# EAGLE library part JS202011AQN (library NikodemBartnik)
Slide Switches DPDT THRU HOLE .3A R/A ON- ON 300mA 6VDC Angle
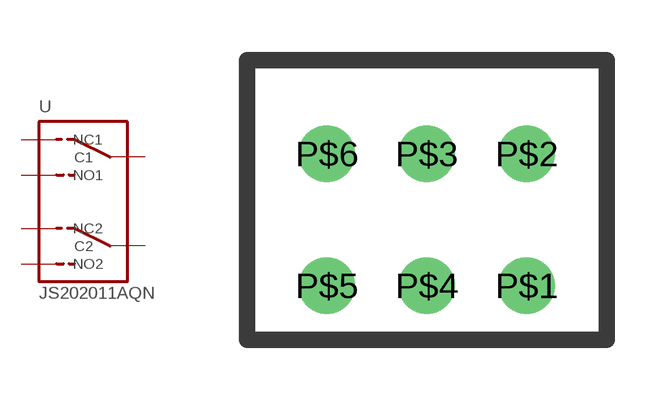
[diagram p1: symbol with the pads of JS202011AQN_DPDT; footprint JS202011AQN_DPDT]

Designator prefix -

## JS202011AQN  [JS202011AQN_DPDT]
P$1  NO2
P$2  NO1
P$3  C1
P$4  C2
P$5  NC2
P$6  NC1

## Footprint JS202011AQN_DPDT (pad centres in mm)
drill 0.9: P$1 2.5,-1.65; P$2 2.5,1.65; P$3 0,1.65; P$4 0,-1.65; P$5 -2.5,-1.65; P$6 -2.5,1.65